# EAGLE library part TC7WG32FU (library space-concordia-power)
TC7WG32FU - Dual OR TC7WG32FU - 1.65V to 5.5V VCC SSOP8 Package Toshiba low power CMOS logic family
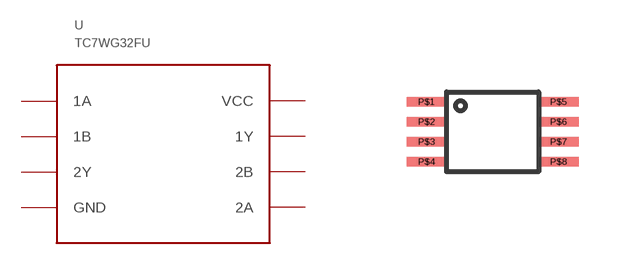
[diagram p16: symbol with the pads of SSOP8; footprint SSOP8]

Designator prefix -

## TC7WG32FU  [SSOP8]
P$1  1A
P$2  1B
P$3  2Y
P$4  GND
P$5  2A
P$6  2B
P$7  1Y
P$8  VCC

## Footprint SSOP8 (pad centres in mm)
SSOP-8 Package SSOP-8; based on Toshiba LAND pattern 2.3mm W x 2.0mm L Pins: 8 x 1mm x 0.2mm
smd 1 x 0.24: P$1 -1.65,0.75; P$2 -1.65,0.25; P$3 -1.65,-0.25; P$4 -1.65,-0.75; P$5 1.65,0.75; P$6 1.65,0.25; P$7 1.65,-0.25; P$8 1.65,-0.75